# Altium footprint library PCB_FT232H - Copy.PcbLib: 13 footprints
Each footprint in its own frame and in the unit in brackets; x right, y up, seen from the top. Pads: shape width x height; smd on the part's side, far side on the other; paste and mask are expansions set on the pad; w line width, h text height; cw(c..) or ccw(c..) is an arc to the next point about the centre after c.
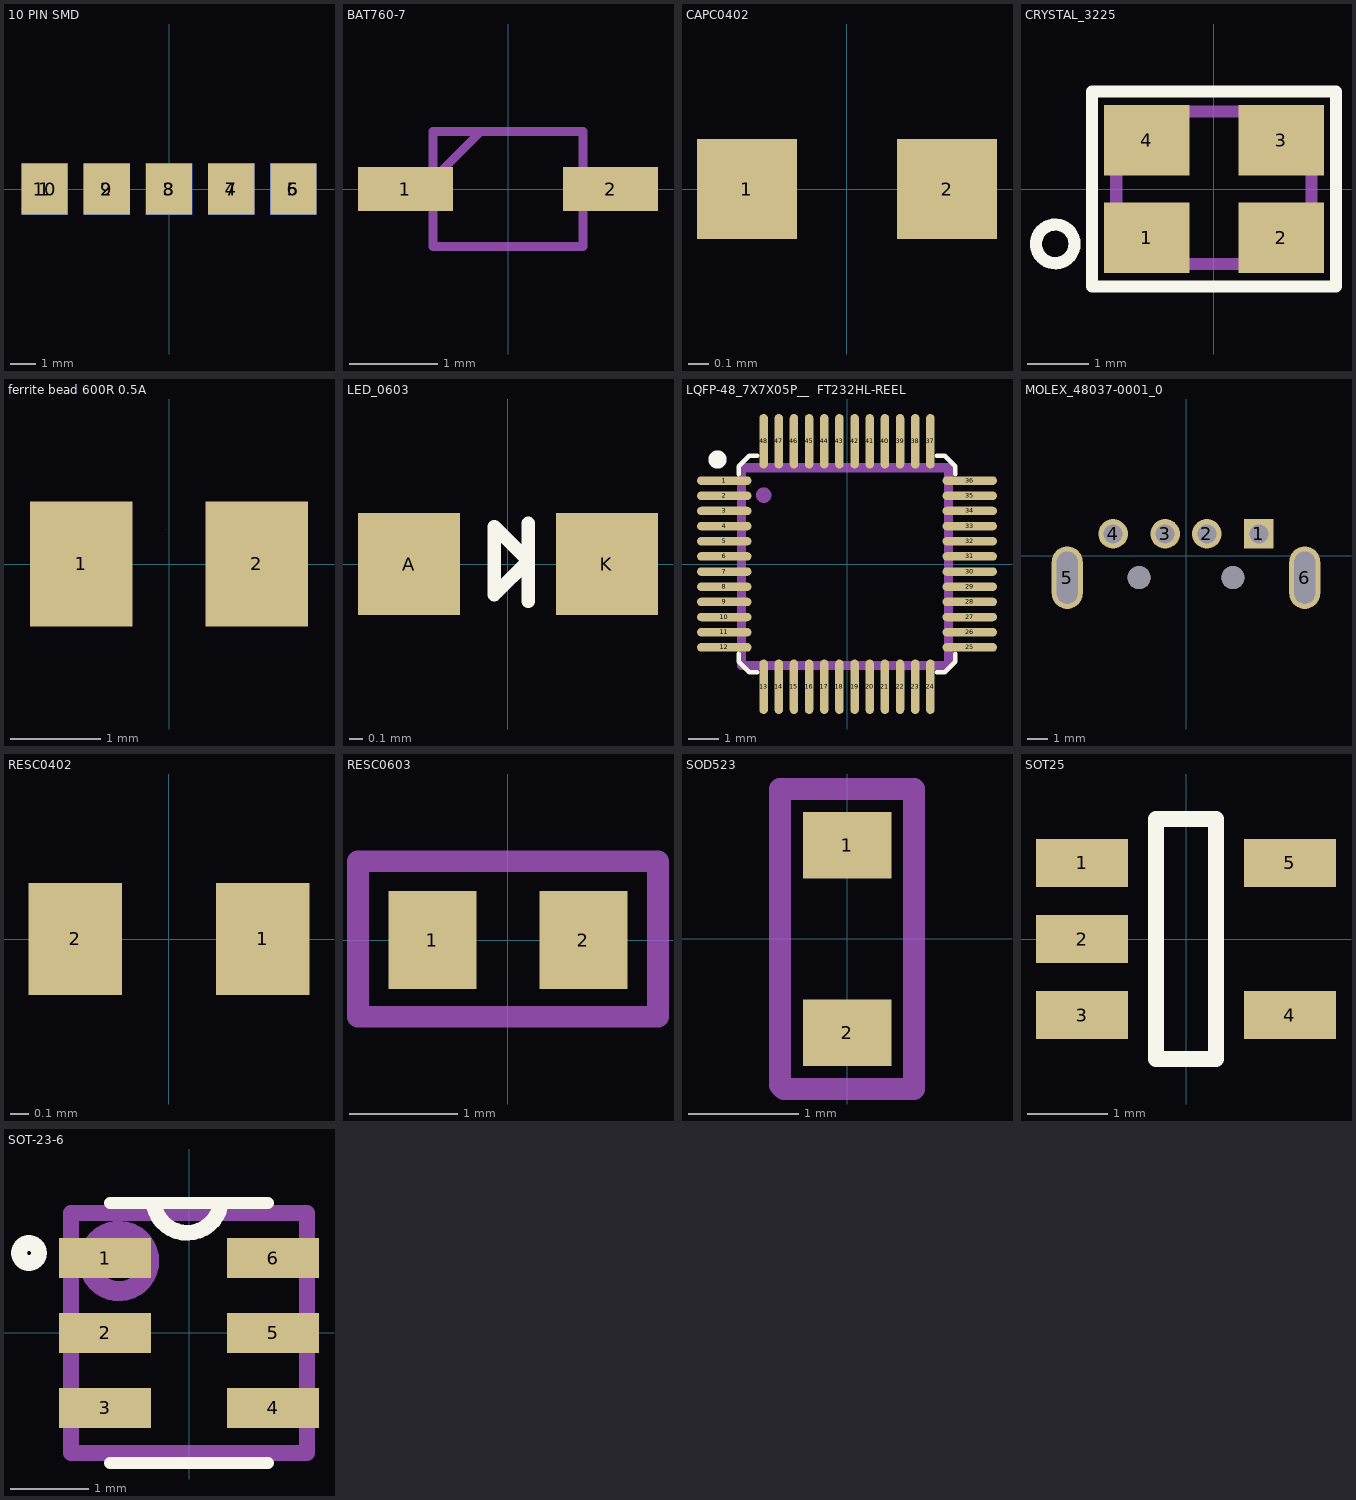
[diagram p0: the footprints below, top view; thin cyan lines are the x and y axes]

## 10 PIN SMD [mm]
pads (10):
  rect 1.8x2 smd: 1(-4.85,0) 2(-2.425,0) 3(0,0) 4(2.425,0) 5(4.85,0)
  rect 1.8x2 smd far side: 6(4.85,0) 7(2.425,0) 8(0,0) 9(-2.425,0) 10(-4.85,0)

## BAT760-7 [mm]
pads (2):
  rect 1.075x0.5 smd: 1(-1.162,0) 2(1.162,0)
Top Assembly:
  lines w0.1: -0.85,0.112 -0.312,0.65 ; -0.85,-0.65 0.85,-0.65 0.85,0.65 -0.85,0.65 -0.85,-0.65
3D body "BAT760-7.stp": height 1.2, standoff 0, extent -1.21,-0.66 1.29,0.64

## CAPC0402 [mm]
pads (2):
  rect 0.5x0.5 smd: 1(-0.5,0) 2(0.5,0)
3D body "CAPC1005X56N EIA 0402.step": height 0.56, standoff 0, extent -0.5,-0.25 0.5,0.25

## CRYSTAL_3225 [mm] "3225 pack"
pads (4):
  rect 1.4x1.15 smd: 1(-1.1,-0.8) 2(1.1,-0.8) 3(1.1,0.8) 4(-1.1,0.8)
Top Overlay:
  circle w0.2: c-2.6,-0.9 r0.316
  lines w0.2: -2,-1.6 2,-1.6 2,1.6 -2,1.6 -2,-1.6
Top Assembly:
  circle w0.4: c-0.969,-0.626 r0.2
  lines w0.2: -1.6,-1.23 1.6,-1.23 1.6,1.27 -1.6,1.27 -1.6,-1.23
3D body "User Library-tsx-3225.STEP": height 0.6, standoff 0, extent -1.6,-1.23 1.6,1.27

## ferrite bead 600R 0.5A [mm] "Ferrite Beads 600 OHM 25% 0.5A"
pads (2):
  rect 1.133x1.377 smd paste-100 mask+0.051: 1(-0.966,0) 2(0.966,0)
Top Paste:
  region: -0.36,-0.22 -0.36,0.22 -0.745,0.689 -1.433,0.689 -1.533,0.589 -1.533,-0.588 -1.433,-0.688 -0.745,-0.688
  region: 0.36,-0.22 0.36,0.22 0.745,0.689 1.433,0.689 1.533,0.589 1.533,-0.588 1.433,-0.688 0.745,-0.688
Mechanical 15:
  lines w0.003: -0.041,0.376 -0.04,0.377
3D body "ferrite.STEP": height 1.05, standoff 0, extent -0.966,-0.625 1.034,0.625

## LED_0603 [mil]
pads (2):
  rect 30x30 smd: A(-29.02,0) K(29.02,0)
Top Overlay:
  lines w3.94: 6,-11 6,12 6,1 ; 6,1 -4,11 -4,-9 6,1
3D body "User Library-LED SMD0603.STEP": height 24.76, standoff -1.81, extent -32.48,-14.27 32.48,14.27

## LQFP-48_7X7X05P__  FT232HL-REEL [mm]
pads (48):
  oval 1.8x0.28 smd: 1(-4.05,2.75) 2(-4.05,2.25) 3(-4.05,1.75) 4(-4.05,1.25) 5(-4.05,0.75) 6(-4.05,0.25) 7(-4.05,-0.25) 8(-4.05,-0.75) 9(-4.05,-1.25) 10(-4.05,-1.75) 11(-4.05,-2.25) 12(-4.05,-2.75) 25(4.05,-2.75) 26(4.05,-2.25) 27(4.05,-1.75) 28(4.05,-1.25) 29(4.05,-0.75) 30(4.05,-0.25) 31(4.05,0.25) 32(4.05,0.75) 33(4.05,1.25) 34(4.05,1.75) 35(4.05,2.25) 36(4.05,2.75)
  oval 0.28x1.8 smd: 13(-2.75,-4.05) 14(-2.25,-4.05) 15(-1.75,-4.05) 16(-1.25,-4.05) 17(-0.75,-4.05) 18(-0.25,-4.05) 19(0.25,-4.05) 20(0.75,-4.05) 21(1.25,-4.05) 22(1.75,-4.05) 23(2.25,-4.05) 24(2.75,-4.05) 37(2.75,4.05) 38(2.25,4.05) 39(1.75,4.05) 40(1.25,4.05) 41(0.75,4.05) 42(0.25,4.05) 43(-0.25,4.05) 44(-0.75,4.05) 45(-1.25,4.05) 46(-1.75,4.05) 47(-2.25,4.05) 48(-2.75,4.05)
Top Overlay:
  lines w0.152: -3.578,-2.967 -3.578,-3.231 -3.231,-3.578 -2.967,-3.578 ; -3.578,2.967 -3.578,3.231 -3.231,3.578 -2.967,3.578 ; 2.967,-3.578 3.231,-3.578 3.578,-3.231 3.578,-2.967 ; 2.967,3.578 3.231,3.578 3.578,3.231 3.578,2.967
  lines w0.3: -4.125,3.447 cw(c-4.275,3.448) -4.125,3.449
Top Assembly:
  circle w0.254: c-2.75,2.272 r0.127
  lines w0.305: -3.48,-3.353 3.353,-3.353 3.353,3.175 -3.48,3.175 -3.48,-3.353
3D body "User Library-P-LQFP48-7x7-0_50.x_t": height 1.45, standoff 0, extent -4.5,-4.5 4.5,4.5

## MOLEX_48037-0001_0 [mm]
pads (8):
  rect 1.42x1.42 hole 0.92 paste-1000 mask+0: 1(3.5,1.05)
  round 1.42 hole 0.92 paste-1000 mask+0: 2(1,1.05) 3(-1,1.05) 4(-3.5,1.05)
  oval 1.5x3 hole 1 slot 2.5 at 90 deg paste-1000 mask+0: 5(-5.7,-1.05) 6(5.7,-1.05)
  round 1.1 hole 1.1 unplated paste-1000 mask+0: ""(-2.25,-1.05) ""(2.25,-1.05)
3D body "14380.x_t": height 3, standoff -2.8, extent -6.303,-18.763 6.303,1.162

## RESC0402 [mm]
pads (2):
  rect 0.5x0.6 smd: 1(0.5,0) 2(-0.5,0)
3D body "R0402.step": height 0.4, standoff 0, extent -0.5,-0.25 0.5,0.25

## RESC0603 [mm]
pads (2):
  rect 0.81x0.9 smd: 1(-0.695,0) 2(0.695,0)
Top Assembly:
  lines w0.2: -1.381,-0.706 -1.381,0.727 1.381,0.727 1.381,-0.706 -1.381,-0.706
3D body "SMD R-0603.STEP": height 0.45, standoff -0.01, extent -0.8,-0.4 0.8,0.4

## SOD523 [mm]
pads (2):
  rect 0.8x0.6 smd: 1(0,0.85) 2(0,-0.85)
Top Assembly:
  lines w0.2: -0.609,-1.325 -0.609,-1.257 -0.609,1.359 0.604,1.359 0.604,-1.36 -0.574,-1.36 -0.609,-1.325
3D body "User Library-SOD-523F.step": height 0.7, standoff 0, extent -0.399,-0.8 0.399,0.8

## SOT25 [mm]
pads (5):
  rect 1.15x0.6 smd: 1(-1.3,0.95) 2(-1.3,0) 3(-1.3,-0.95) 4(1.3,-0.95) 5(1.3,0.95)
Top Overlay:
  lines w0.2: -0.375,-1.5 -0.375,1.5 0.375,1.5 0.375,-1.5 -0.375,-1.5
3D body "AP22802AW5-7.stp": height 1.3, standoff 0, extent -1.45,-1.5 1.4,1.5

## SOT-23-6 [mil]
pads (6):
  rect 46x20 smd paste+0 mask+0: 1(-42,37.4) 2(-42,0) 3(-42,-37.4) 4(42,-37.4) 5(42,0) 6(42,37.4)
Top Overlay:
  circle w7.87: c-80,40 r5
  lines w6: -39.5,-65 39.5,-65 ; -39.5,65 39.5,65
  lines w7.87: -17.47,63.4 ccw(c-0.91,67.04) 15.8,64.18
Top Assembly:
  circle w10: c-35,36 r15.11
  lines w7.87: -59.01,-60 -59.01,60 59.01,60 59.01,-60 -59.01,-60
3D body "DBV6.step": height 57.09, standoff 0, extent -59.02,-60 59.01,60